# Altium footprint library WR-TBL_Rising Cage Clamp_10.00mm.PcbLib: 54 footprints (part 2 of 4)
Each footprint in its own frame and in the unit in brackets; x right, y up, seen from the top. Pads: shape width x height; smd on the part's side, far side on the other; paste and mask are expansions set on the pad; w line width, h text height; cw(c..) or ccw(c..) is an arc to the next point about the centre after c.
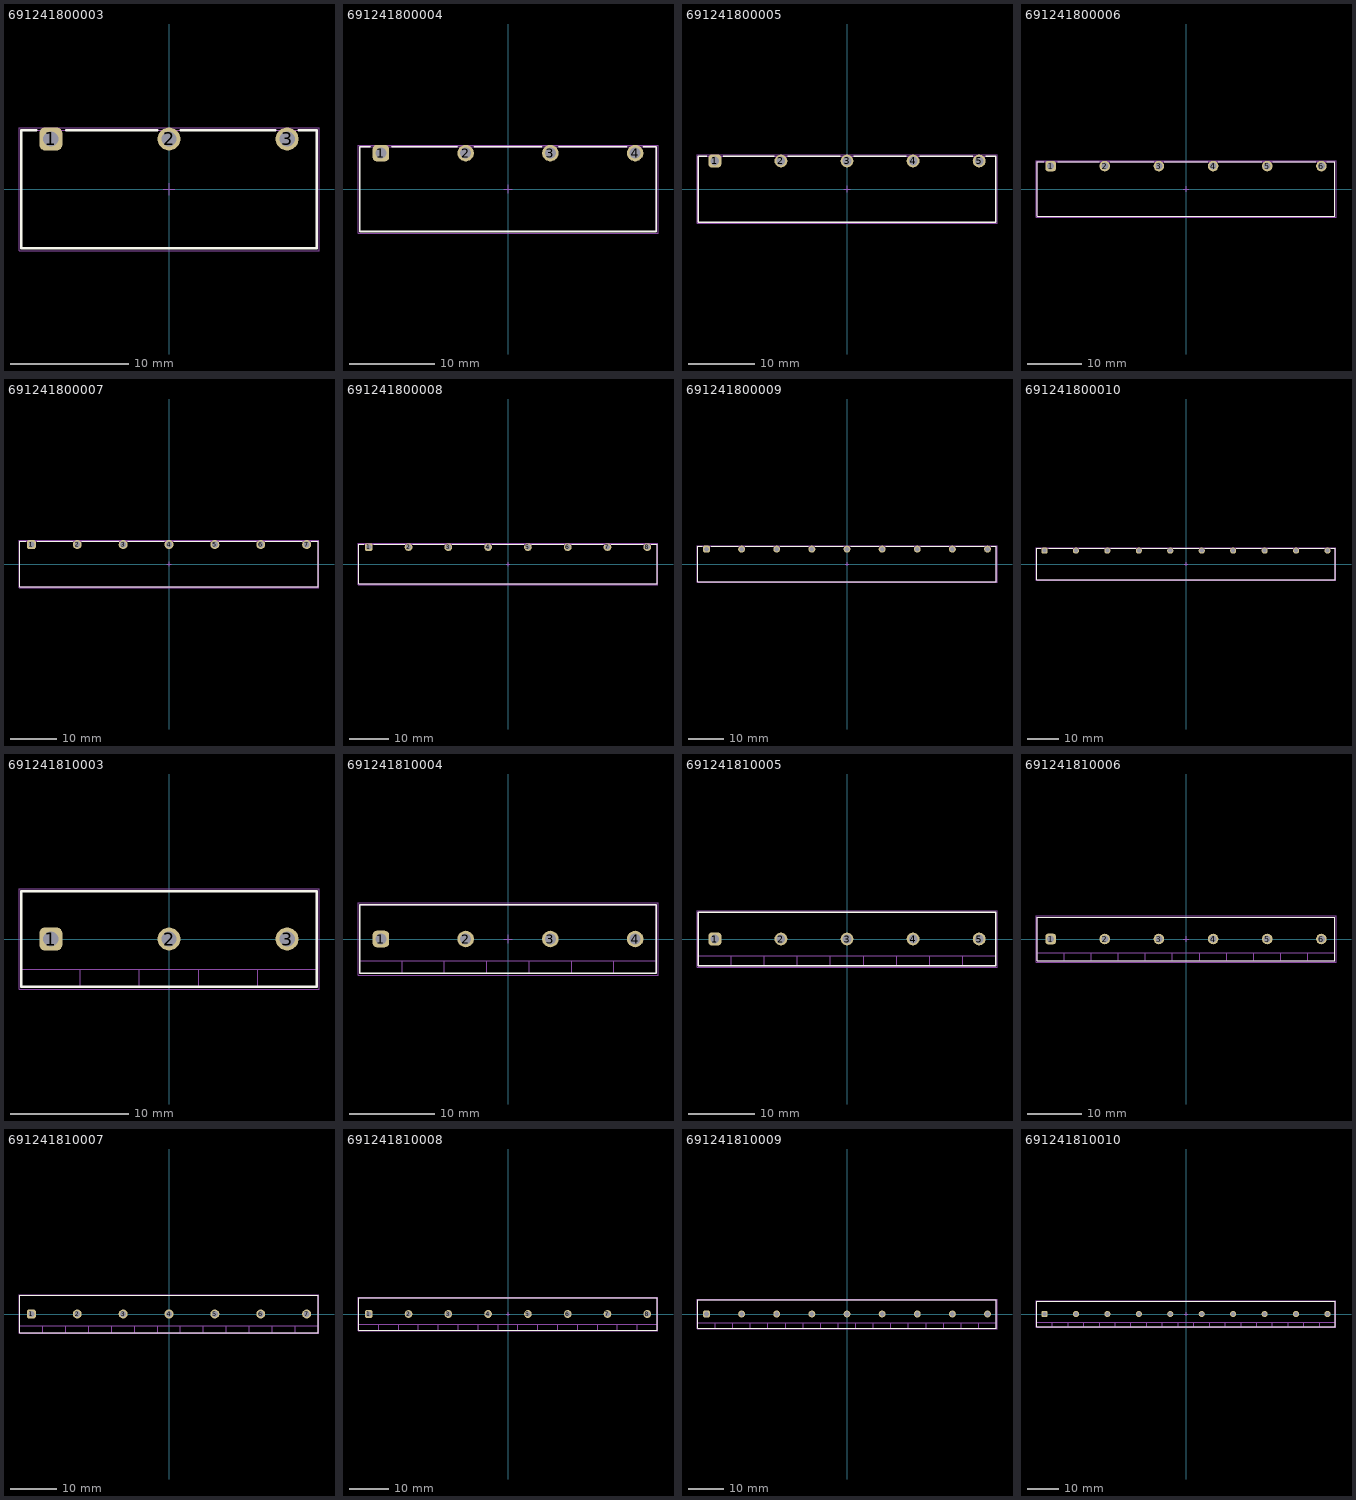
[diagram p1: the footprints below, top view; thin cyan lines are the x and y axes]

## 691241800003 [mm] "10.00mm Vertical Cable Entry with Rising Cage Clamp, 03p"
height 8.1
pads (3):
  rrect50% 1.95x1.95 hole 1.3: 1(-10,4.25)
  round 1.95 hole 1.3: 2(0,4.25) 3(10,4.25)
Top Overlay:
  lines w0.2: -11.25,5 -12.5,5 -12.5,-5 12.5,-5 12.5,5 11,5 ; -8.7,5 -1,5 ; 1,5 9,5
Top Assembly:
  lines w0.1: -12.5,-5 -12.5,5 12.5,5 12.5,-5 -12.5,-5
Top Designator:
  text ".Designator" at -3.647,-0.357 h1
Top 3D Body:
  lines w0.1: -12.5,-5 12.5,-5 12.5,5 -12.5,5 -12.5,-5
Top Courtyard:
  lines w0.05: -12.7,-5.2 12.7,-5.2 12.7,5.2 -12.7,5.2 -12.7,-5.2
Top Component Center:
  lines w0.1: -0.5,0 0.5,0 ; 0,-0.5 0,0.5
3D body "691241800003.stp": height 8.2, standoff -3.4, extent -12.5,-5 12.5,5

## 691241800004 [mm] "10.00mm Vertical Cable Entry with Rising Cage Clamp, 04p"
height 8.1
pads (4):
  rrect50% 1.95x1.95 hole 1.3: 1(-15,4.25)
  round 1.95 hole 1.3: 2(-5,4.25) 3(5,4.25) 4(15,4.25)
Top Overlay:
  lines w0.2: -16.25,5 -17.5,5 -17.5,-5 17.5,-5 17.5,5 16,5 ; -13.7,5 -6,5 ; -4,5 4,5 ; 6,5 14,5
Top Assembly:
  lines w0.1: -17.5,-5 17.5,-5 17.5,5 -17.5,5 -17.5,-5
Top Designator:
  text ".Designator" at -3.647,-0.357 h1
Top 3D Body:
  lines w0.1: -17.5,-5 -17.5,5 17.5,5 17.5,-5 -17.5,-5
Top Courtyard:
  lines w0.05: -17.7,-5.2 -17.7,5.2 17.7,5.2 17.7,-5.2 -17.7,-5.2
Top Component Center:
  lines w0.1: -0.5,0 0.5,0 ; 0,-0.5 0,0.5
3D body "691241800004.stp": height 8.2, standoff -3.4, extent -17.5,-5 17.5,5

## 691241800005 [mm] "10.00mm Vertical Cable Entry with Rising Cage Clamp, 05p"
height 8.1
pads (5):
  rrect50% 1.95x1.95 hole 1.3: 1(-20,4.25)
  round 1.95 hole 1.3: 2(-10,4.25) 3(0,4.25) 4(10,4.25) 5(20,4.25)
Top Overlay:
  lines w0.2: -21.25,5 -22.5,5 -22.5,-5 22.5,-5 22.5,5 21,5 ; -18.7,5 -11,5 ; -9,5 -1,5 ; 1,5 9,5 ; 11,5 19,5
Top Assembly:
  lines w0.1: -22.5,-5 22.5,-5 22.5,5 -22.5,5 -22.5,-5
Top Designator:
  text ".Designator" at -3.647,-0.357 h1
Top 3D Body:
  lines w0.1: -22.5,-5 -22.5,5 22.5,5 22.5,-5 -22.5,-5
Top Courtyard:
  lines w0.05: -22.7,-5.2 -22.7,5.2 22.7,5.2 22.7,-5.2 -22.7,-5.2
Top Component Center:
  lines w0.1: -0.5,0 0.5,0 ; 0,-0.5 0,0.5
3D body "691241800005.stp": height 8.2, standoff -3.4, extent -22.5,-5 22.5,5

## 691241800006 [mm] "10.00mm Vertical Cable Entry with Rising Cage Clamp, 06p"
height 8.1
pads (6):
  rrect50% 1.95x1.95 hole 1.3: 1(-25,4.25)
  round 1.95 hole 1.3: 2(-15,4.25) 3(-5,4.25) 4(5,4.25) 5(15,4.25) 6(25,4.25)
Top Overlay:
  lines w0.2: -26.25,5 -27.5,5 -27.5,-5 27.5,-5 27.5,5 26,5 ; -23.7,5 -16,5 ; -14,5 -6,5 ; -4,5 4,5 ; 6,5 14,5 ; 16,5 24,5
Top Assembly:
  lines w0.1: -27.5,-5 27.5,-5 27.5,5 -27.5,5 -27.5,-5
Top Designator:
  text ".Designator" at -3.647,-0.357 h1
Top 3D Body:
  lines w0.1: -27.5,-5 -27.5,5 27.5,5 27.5,-5 -27.5,-5
Top Courtyard:
  lines w0.05: -27.7,-5.2 -27.7,5.2 27.7,5.2 27.7,-5.2 -27.7,-5.2
Top Component Center:
  lines w0.1: -0.5,0 0.5,0 ; 0,-0.5 0,0.5
3D body "691241800006.stp": height 8.2, standoff -3.4, extent -27.5,-5 27.5,5

## 691241800007 [mm] "10.00mm Vertical Cable Entry with Rising Cage Clamp, 07p"
height 8.1
pads (7):
  rrect50% 1.95x1.95 hole 1.3: 1(-30,4.25)
  round 1.95 hole 1.3: 2(-20,4.25) 3(-10,4.25) 4(0,4.25) 5(10,4.25) 6(20,4.25) 7(30,4.25)
Top Overlay:
  lines w0.2: -31.25,5 -32.5,5 -32.5,-5 32.5,-5 32.5,5 31,5 ; -28.7,5 -21,5 ; -19,5 -11,5 ; -9,5 -1,5 ; 1,5 9,5 ; 11,5 19,5 ; 21,5 29,5
Top Assembly:
  lines w0.1: -32.5,-5 32.5,-5 32.5,5 -32.5,5 -32.5,-5
Top Designator:
  text ".Designator" at -3.647,-0.357 h1
Top 3D Body:
  lines w0.1: -32.5,-5 -32.5,5 32.5,5 32.5,-5 -32.5,-5
Top Courtyard:
  lines w0.05: -32.7,-5.2 -32.7,5.2 32.7,5.2 32.7,-5.2 -32.7,-5.2
Top Component Center:
  lines w0.1: -0.5,0 0.5,0 ; 0,-0.5 0,0.5
3D body "691241800007.stp": height 8.2, standoff -3.4, extent -32.5,-5 32.5,5

## 691241800008 [mm] "10.00mm Vertical Cable Entry with Rising Cage Clamp, 08p"
height 8.1
pads (8):
  rrect50% 1.95x1.95 hole 1.3: 1(-35,4.25)
  round 1.95 hole 1.3: 2(-25,4.25) 3(-15,4.25) 4(-5,4.25) 5(5,4.25) 6(15,4.25) 7(25,4.25) 8(35,4.25)
Top Overlay:
  lines w0.2: -36.25,5 -37.5,5 -37.5,-5 37.5,-5 37.5,5 36,5 ; -33.7,5 -26,5 ; -24,5 -16,5 ; -14,5 -6,5 ; -4,5 4,5 ; 6,5 14,5 ; 16,5 24,5 ; 26,5 34,5
Top Assembly:
  lines w0.1: -37.5,-5 -37.5,5 37.5,5 37.5,-5 -37.5,-5
Top Designator:
  text ".Designator" at -3.647,-0.357 h1
Top 3D Body:
  lines w0.1: -37.5,-5 37.5,-5 37.5,5 -37.5,5 -37.5,-5
Top Courtyard:
  lines w0.05: -37.7,-5.2 37.7,-5.2 37.7,5.2 -37.7,5.2 -37.7,-5.2
Top Component Center:
  lines w0.1: -0.5,0 0.5,0 ; 0,-0.5 0,0.5
3D body "691241800008.stp": height 8.2, standoff -3.4, extent -37.5,-5 37.5,5

## 691241800009 [mm] "10.00mm Vertical Cable Entry with Rising Cage Clamp, 09p"
height 8.1
pads (9):
  rrect50% 1.95x1.95 hole 1.3: 1(-40,4.25)
  round 1.95 hole 1.3: 2(-30,4.25) 3(-20,4.25) 4(-10,4.25) 5(0,4.25) 6(10,4.25) 7(20,4.25) 8(30,4.25) 9(40,4.25)
Top Overlay:
  lines w0.2: -41.25,5 -42.5,5 -42.5,-5 42.5,-5 42.5,5 41,5 ; -38.7,5 -31,5 ; -29,5 -21,5 ; -19,5 -11,5 ; -9,5 -1,5 ; 1,5 9,5 ; 11,5 19,5 ; 21,5 29,5 ; 31,5 39,5
Top Assembly:
  lines w0.1: -42.5,-5 42.5,-5 42.5,5 -42.5,5 -42.5,-5
Top Designator:
  text ".Designator" at -3.647,-0.357 h1
Top 3D Body:
  lines w0.1: -42.5,-5 -42.5,5 42.5,5 42.5,-5 -42.5,-5
Top Courtyard:
  lines w0.05: -42.7,-5.2 -42.7,5.2 42.7,5.2 42.7,-5.2 -42.7,-5.2
Top Component Center:
  lines w0.1: -0.5,0 0.5,0 ; 0,-0.5 0,0.5
3D body "691241800009.stp": height 8.2, standoff -3.4, extent -42.5,-5 42.5,5

## 691241800010 [mm] "10.00mm Vertical Cable Entry with Rising Cage Clamp, 10p"
height 8.1
pads (10):
  rrect50% 1.95x1.95 hole 1.3: 1(-45,4.25)
  round 1.95 hole 1.3: 2(-35,4.25) 3(-25,4.25) 4(-15,4.25) 5(-5,4.25) 6(5,4.25) 7(15,4.25) 8(25,4.25) 9(35,4.25) 10(45,4.25)
Top Overlay:
  lines w0.2: -46.25,5 -47.5,5 -47.5,-5 47.5,-5 47.5,5 46,5 ; -43.7,5 -36,5 ; -34,5 -26,5 ; -24,5 -16,5 ; -14,5 -6,5 ; -4,5 4,5 ; 6,5 14,5 ; 16,5 24,5 ; 26,5 34,5 ; 36,5 44,5
Top Assembly:
  lines w0.1: -47.5,-5 47.5,-5 47.5,5 -47.5,5 -47.5,-5
Top Designator:
  text ".Designator" at -3.647,-0.357 h1
Top 3D Body:
  lines w0.1: -47.5,-5 -47.5,5 47.5,5 47.5,-5 -47.5,-5
Top Courtyard:
  lines w0.05: -47.7,-5.2 -47.7,5.2 47.7,5.2 47.7,-5.2 -47.7,-5.2
Top Component Center:
  lines w0.1: -0.5,0 0.5,0 ; 0,-0.5 0,0.5
3D body "691241800010.stp": height 8.2, standoff -3.4, extent -47.5,-5 47.5,5

## 691241810003 [mm] "10.00mm Horizontal Cable Entry with Rising Cage Clamp, 03p"
height 10
pads (3):
  rrect50% 1.95x1.95 hole 1.3: 1(-10,0)
  round 1.95 hole 1.3: 2(0,0) 3(10,0)
Top Overlay:
  lines w0.2: -12.5,-4.05 -12.5,4.05 12.5,4.05 12.5,-4.05 -12.5,-4.05
Top Assembly:
  lines w0.1: -12.5,-2.55 12.5,-2.55 ; -7.5,-4.05 -7.5,-2.55 ; -2.5,-4.05 -2.5,-2.55 ; 2.5,-4.05 2.5,-2.55 ; 7.5,-4.05 7.5,-2.55 ; -12.5,-4.05 12.5,-4.05 12.5,4.05 -12.5,4.05 -12.5,-4.05
Top Designator:
  text ".Designator" at -3.647,-0.357 h1
Top 3D Body:
  lines w0.1: -12.5,-2.55 12.5,-2.55 ; -7.5,-4.05 -7.5,-2.55 ; -2.5,-4.05 -2.5,-2.55 ; 2.5,-4.05 2.5,-2.55 ; 7.5,-4.05 7.5,-2.55 ; -12.5,-4.05 -12.5,4.05 12.5,4.05 12.5,-4.05 -12.5,-4.05
Top Courtyard:
  lines w0.05: -12.7,-4.25 -12.7,4.25 12.7,4.25 12.7,-4.25 -12.7,-4.25
Top Component Center:
  lines w0.1: -0.5,0 0.5,0 ; 0,-0.5 0,0.5
3D body "691241810003.stp": height 10.1, standoff -3.4, extent -12.5,-4.05 12.5,4.05

## 691241810004 [mm] "10.00mm Horizontal Cable Entry with Rising Cage Clamp, 04p"
height 10
pads (4):
  rrect50% 1.95x1.95 hole 1.3: 1(-15,0)
  round 1.95 hole 1.3: 2(-5,0) 3(5,0) 4(15,0)
Top Overlay:
  lines w0.2: -17.5,-4.05 -17.5,4.05 17.5,4.05 17.5,-4.05 -17.5,-4.05
Top Assembly:
  lines w0.1: -17.5,-2.55 17.5,-2.55 ; -12.5,-4.05 -12.5,-2.55 ; -7.5,-4.05 -7.5,-2.55 ; -2.5,-4.05 -2.5,-2.55 ; 2.5,-4.05 2.5,-2.55 ; 7.5,-4.05 7.5,-2.55 ; 12.5,-4.05 12.5,-2.55 ; -17.5,-4.05 17.5,-4.05 17.5,4.05 -17.5,4.05 -17.5,-4.05
Top Designator:
  text ".Designator" at -3.647,-0.357 h1
Top 3D Body:
  lines w0.1: -17.5,-2.55 17.5,-2.55 ; -12.5,-4.05 -12.5,-2.55 ; -7.5,-4.05 -7.5,-2.55 ; -2.5,-4.05 -2.5,-2.55 ; 2.5,-4.05 2.5,-2.55 ; 7.5,-4.05 7.5,-2.55 ; 12.5,-4.05 12.5,-2.55 ; -17.5,-4.05 -17.5,4.05 17.5,4.05 17.5,-4.05 -17.5,-4.05
Top Courtyard:
  lines w0.05: -17.7,-4.25 -17.7,4.25 17.7,4.25 17.7,-4.25 -17.7,-4.25
Top Component Center:
  lines w0.1: -0.5,0 0.5,0 ; 0,-0.5 0,0.5
3D body "691241810004.stp": height 10.1, standoff -3.4, extent -17.5,-4.05 17.5,4.05

## 691241810005 [mm] "10.00mm Horizontal Cable Entry with Rising Cage Clamp, 05p"
height 10
pads (5):
  rrect50% 1.95x1.95 hole 1.3: 1(-20,0)
  round 1.95 hole 1.3: 2(-10,0) 3(0,0) 4(10,0) 5(20,0)
Top Overlay:
  lines w0.2: -22.5,-4.05 22.5,-4.05 22.5,4.05 -22.5,4.05 -22.5,-4.05
Top Assembly:
  lines w0.1: -22.5,-2.55 22.5,-2.55 ; -17.5,-4.05 -17.5,-2.55 ; -12.5,-4.05 -12.5,-2.55 ; -7.5,-4.05 -7.5,-2.55 ; -2.5,-4.05 -2.5,-2.55 ; 2.5,-4.05 2.5,-2.55 ; 7.5,-4.05 7.5,-2.55 ; 12.5,-4.05 12.5,-2.55 ; 17.5,-4.05 17.5,-2.55 ; -22.5,-4.05 -22.5,4.05 22.5,4.05 22.5,-4.05 -22.5,-4.05
Top Designator:
  text ".Designator" at -3.647,-0.357 h1
Top 3D Body:
  lines w0.1: -22.5,-2.55 22.5,-2.55 ; -17.5,-4.05 -17.5,-2.55 ; -12.5,-4.05 -12.5,-2.55 ; -7.5,-4.05 -7.5,-2.55 ; -2.5,-4.05 -2.5,-2.55 ; 2.5,-4.05 2.5,-2.55 ; 7.5,-4.05 7.5,-2.55 ; 12.5,-4.05 12.5,-2.55 ; 17.5,-4.05 17.5,-2.55 ; -22.5,-4.05 22.5,-4.05 22.5,4.05 -22.5,4.05 -22.5,-4.05
Top Courtyard:
  lines w0.05: -22.7,-4.25 22.7,-4.25 22.7,4.25 -22.7,4.25 -22.7,-4.25
Top Component Center:
  lines w0.1: -0.5,0 0.5,0 ; 0,-0.5 0,0.5
3D body "691241810005.stp": height 10.1, standoff -3.4, extent -22.5,-4.05 22.5,4.05

## 691241810006 [mm] "10.00mm Horizontal Cable Entry with Rising Cage Clamp, 06p"
height 10
pads (6):
  rrect50% 1.95x1.95 hole 1.3: 1(-25,0)
  round 1.95 hole 1.3: 2(-15,0) 3(-5,0) 4(5,0) 5(15,0) 6(25,0)
Top Overlay:
  lines w0.2: -27.5,-4.05 27.5,-4.05 27.5,4.05 -27.5,4.05 -27.5,-4.05
Top Assembly:
  lines w0.1: -27.5,-2.55 27.5,-2.55 ; -22.5,-4.05 -22.5,-2.55 ; -17.5,-4.05 -17.5,-2.55 ; -12.5,-4.05 -12.5,-2.55 ; -7.5,-4.05 -7.5,-2.55 ; -2.5,-4.05 -2.5,-2.55 ; 2.5,-4.05 2.5,-2.55 ; 7.5,-4.05 7.5,-2.55 ; 12.5,-4.05 12.5,-2.55 ; 17.5,-4.05 17.5,-2.55 ; 22.5,-4.05 22.5,-2.55 ; -27.5,-4.05 -27.5,4.05 27.5,4.05 27.5,-4.05 -27.5,-4.05
Top Designator:
  text ".Designator" at -3.647,-0.357 h1
Top 3D Body:
  lines w0.1: -27.5,-2.55 27.5,-2.55 ; -22.5,-4.05 -22.5,-2.55 ; -17.5,-4.05 -17.5,-2.55 ; -12.5,-4.05 -12.5,-2.55 ; -7.5,-4.05 -7.5,-2.55 ; -2.5,-4.05 -2.5,-2.55 ; 2.5,-4.05 2.5,-2.55 ; 7.5,-4.05 7.5,-2.55 ; 12.5,-4.05 12.5,-2.55 ; 17.5,-4.05 17.5,-2.55 ; 22.5,-4.05 22.5,-2.55 ; -27.5,-4.05 27.5,-4.05 27.5,4.05 -27.5,4.05 -27.5,-4.05
Top Courtyard:
  lines w0.05: -27.7,-4.25 27.7,-4.25 27.7,4.25 -27.7,4.25 -27.7,-4.25
Top Component Center:
  lines w0.1: -0.5,0 0.5,0 ; 0,-0.5 0,0.5
3D body "691241810006.stp": height 10.1, standoff -3.4, extent -27.5,-4.05 27.5,4.05

## 691241810007 [mm] "10.00mm Horizontal Cable Entry with Rising Cage Clamp, 07p"
height 10
pads (7):
  rrect50% 1.95x1.95 hole 1.3: 1(-30,0)
  round 1.95 hole 1.3: 2(-20,0) 3(-10,0) 4(0,0) 5(10,0) 6(20,0) 7(30,0)
Top Overlay:
  lines w0.2: -32.5,-4.05 32.5,-4.05 32.5,4.05 -32.5,4.05 -32.5,-4.05
Top Assembly:
  lines w0.1: -32.5,-2.55 32.5,-2.55 ; -27.5,-4.05 -27.5,-2.55 ; -22.5,-4.05 -22.5,-2.55 ; -17.5,-4.05 -17.5,-2.55 ; -12.5,-4.05 -12.5,-2.55 ; -7.5,-4.05 -7.5,-2.55 ; -2.5,-4.05 -2.5,-2.55 ; 2.5,-4.05 2.5,-2.55 ; 7.5,-4.05 7.5,-2.55 ; 12.5,-4.05 12.5,-2.55 ; 17.5,-4.05 17.5,-2.55 ; 22.5,-4.05 22.5,-2.55 ; 27.5,-4.05 27.5,-2.55 ; -32.5,-4.05 -32.5,4.05 32.5,4.05 32.5,-4.05 -32.5,-4.05
Top Designator:
  text ".Designator" at -3.647,-0.357 h1
Top 3D Body:
  lines w0.1: -32.5,-2.55 32.5,-2.55 ; -27.5,-4.05 -27.5,-2.55 ; -22.5,-4.05 -22.5,-2.55 ; -17.5,-4.05 -17.5,-2.55 ; -12.5,-4.05 -12.5,-2.55 ; -7.5,-4.05 -7.5,-2.55 ; -2.5,-4.05 -2.5,-2.55 ; 2.5,-4.05 2.5,-2.55 ; 7.5,-4.05 7.5,-2.55 ; 12.5,-4.05 12.5,-2.55 ; 17.5,-4.05 17.5,-2.55 ; 22.5,-4.05 22.5,-2.55 ; 27.5,-4.05 27.5,-2.55 ; -32.5,-4.05 32.5,-4.05 32.5,4.05 -32.5,4.05 -32.5,-4.05
Top Courtyard:
  lines w0.05: -32.7,-4.25 32.7,-4.25 32.7,4.25 -32.7,4.25 -32.7,-4.25
Top Component Center:
  lines w0.1: -0.5,0 0.5,0 ; 0,-0.5 0,0.5
3D body "691241810007.stp": height 10.1, standoff -3.4, extent -32.5,-4.05 32.5,4.05

## 691241810008 [mm] "10.00mm Horizontal Cable Entry with Rising Cage Clamp, 08p"
height 10
pads (8):
  rrect50% 1.95x1.95 hole 1.3: 1(-35,0)
  round 1.95 hole 1.3: 2(-25,0) 3(-15,0) 4(-5,0) 5(5,0) 6(15,0) 7(25,0) 8(35,0)
Top Overlay:
  lines w0.2: -37.5,-4.05 37.5,-4.05 37.5,4.05 -37.5,4.05 -37.5,-4.05
Top Assembly:
  lines w0.1: -37.5,-2.55 37.5,-2.55 ; -32.5,-4.05 -32.5,-2.55 ; -27.5,-4.05 -27.5,-2.55 ; -22.5,-4.05 -22.5,-2.55 ; -17.5,-4.05 -17.5,-2.55 ; -12.5,-4.05 -12.5,-2.55 ; -7.5,-4.05 -7.5,-2.55 ; -2.5,-4.05 -2.5,-2.55 ; 2.5,-4.05 2.5,-2.55 ; 7.5,-4.05 7.5,-2.55 ; 12.5,-4.05 12.5,-2.55 ; 17.5,-4.05 17.5,-2.55 ; 22.5,-4.05 22.5,-2.55 ; 27.5,-4.05 27.5,-2.55 ; 32.5,-4.05 32.5,-2.55 ; -37.5,-4.05 -37.5,4.05 37.5,4.05 37.5,-4.05 -37.5,-4.05
Top Designator:
  text ".Designator" at -3.647,-0.357 h1
Top 3D Body:
  lines w0.1: -37.5,-2.55 37.5,-2.55 ; -32.5,-4.05 -32.5,-2.55 ; -27.5,-4.05 -27.5,-2.55 ; -22.5,-4.05 -22.5,-2.55 ; -17.5,-4.05 -17.5,-2.55 ; -12.5,-4.05 -12.5,-2.55 ; -7.5,-4.05 -7.5,-2.55 ; -2.5,-4.05 -2.5,-2.55 ; 2.5,-4.05 2.5,-2.55 ; 7.5,-4.05 7.5,-2.55 ; 12.5,-4.05 12.5,-2.55 ; 17.5,-4.05 17.5,-2.55 ; 22.5,-4.05 22.5,-2.55 ; 27.5,-4.05 27.5,-2.55 ; 32.5,-4.05 32.5,-2.55 ; -37.5,-4.05 37.5,-4.05 37.5,4.05 -37.5,4.05 -37.5,-4.05
Top Courtyard:
  lines w0.05: -37.7,-4.25 37.7,-4.25 37.7,4.25 -37.7,4.25 -37.7,-4.25
Top Component Center:
  lines w0.1: -0.5,0 0.5,0 ; 0,-0.5 0,0.5
3D body "691241810008.stp": height 10.1, standoff -3.4, extent -37.5,-4.05 37.5,4.05

## 691241810009 [mm] "10.00mm Horizontal Cable Entry with Rising Cage Clamp, 09p"
height 10
pads (9):
  rrect50% 1.95x1.95 hole 1.3: 1(-40,0)
  round 1.95 hole 1.3: 2(-30,0) 3(-20,0) 4(-10,0) 5(0,0) 6(10,0) 7(20,0) 8(30,0) 9(40,0)
Top Overlay:
  lines w0.2: -42.5,-4.05 -42.5,4.05 42.5,4.05 42.5,-4.05 -42.5,-4.05
Top Assembly:
  lines w0.1: -42.5,-2.55 42.5,-2.55 ; -37.5,-4.05 -37.5,-2.55 ; -32.5,-4.05 -32.5,-2.55 ; -27.5,-4.05 -27.5,-2.55 ; -22.5,-4.05 -22.5,-2.55 ; -17.5,-4.05 -17.5,-2.55 ; -12.5,-4.05 -12.5,-2.55 ; -7.5,-4.05 -7.5,-2.55 ; -2.5,-4.05 -2.5,-2.55 ; 2.5,-4.05 2.5,-2.55 ; 7.5,-4.05 7.5,-2.55 ; 12.5,-4.05 12.5,-2.55 ; 17.5,-4.05 17.5,-2.55 ; 22.5,-4.05 22.5,-2.55 ; 27.5,-4.05 27.5,-2.55 ; 32.5,-4.05 32.5,-2.55 ; 37.5,-4.05 37.5,-2.55 ; -42.5,-4.05 42.5,-4.05 42.5,4.05 -42.5,4.05 -42.5,-4.05
Top Designator:
  text ".Designator" at -3.647,-0.357 h1
Top 3D Body:
  lines w0.1: -42.5,-2.55 42.5,-2.55 ; -37.5,-4.05 -37.5,-2.55 ; -32.5,-4.05 -32.5,-2.55 ; -27.5,-4.05 -27.5,-2.55 ; -22.5,-4.05 -22.5,-2.55 ; -17.5,-4.05 -17.5,-2.55 ; -12.5,-4.05 -12.5,-2.55 ; -7.5,-4.05 -7.5,-2.55 ; -2.5,-4.05 -2.5,-2.55 ; 2.5,-4.05 2.5,-2.55 ; 7.5,-4.05 7.5,-2.55 ; 12.5,-4.05 12.5,-2.55 ; 17.5,-4.05 17.5,-2.55 ; 22.5,-4.05 22.5,-2.55 ; 27.5,-4.05 27.5,-2.55 ; 32.5,-4.05 32.5,-2.55 ; 37.5,-4.05 37.5,-2.55 ; -42.5,-4.05 -42.5,4.05 42.5,4.05 42.5,-4.05 -42.5,-4.05
Top Courtyard:
  lines w0.05: -42.7,-4.25 -42.7,4.25 42.7,4.25 42.7,-4.25 -42.7,-4.25
Top Component Center:
  lines w0.1: -0.5,0 0.5,0 ; 0,-0.5 0,0.5
3D body "691241810009.stp": height 10.1, standoff -3.4, extent -42.5,-4.05 42.5,4.05

## 691241810010 [mm] "10.00mm Horizontal Cable Entry with Rising Cage Clamp, 10p"
height 10
pads (10):
  rrect50% 1.95x1.95 hole 1.3: 1(-45,0)
  round 1.95 hole 1.3: 2(-35,0) 3(-25,0) 4(-15,0) 5(-5,0) 6(5,0) 7(15,0) 8(25,0) 9(35,0) 10(45,0)
Top Overlay:
  lines w0.2: -47.5,-4.05 -47.5,4.05 47.5,4.05 47.5,-4.05 -47.5,-4.05
Top Assembly:
  lines w0.1: -47.5,-2.55 47.5,-2.55 ; -42.5,-4.05 -42.5,-2.55 ; -37.5,-4.05 -37.5,-2.55 ; -32.5,-4.05 -32.5,-2.55 ; -27.5,-4.05 -27.5,-2.55 ; -22.5,-4.05 -22.5,-2.55 ; -17.5,-4.05 -17.5,-2.55 ; -12.5,-4.05 -12.5,-2.55 ; -7.5,-4.05 -7.5,-2.55 ; -2.5,-4.05 -2.5,-2.55 ; 2.5,-4.05 2.5,-2.55 ; 7.5,-4.05 7.5,-2.55 ; 12.5,-4.05 12.5,-2.55 ; 17.5,-4.05 17.5,-2.55 ; 22.5,-4.05 22.5,-2.55 ; 27.5,-4.05 27.5,-2.55 ; 32.5,-4.05 32.5,-2.55 ; 37.5,-4.05 37.5,-2.55 ; 42.5,-4.05 42.5,-2.55 ; -47.5,-4.05 47.5,-4.05 47.5,4.05 -47.5,4.05 -47.5,-4.05
Top Designator:
  text ".Designator" at -3.647,-0.357 h1
Top 3D Body:
  lines w0.1: -47.5,-2.55 47.5,-2.55 ; -42.5,-4.05 -42.5,-2.55 ; -37.5,-4.05 -37.5,-2.55 ; -32.5,-4.05 -32.5,-2.55 ; -27.5,-4.05 -27.5,-2.55 ; -22.5,-4.05 -22.5,-2.55 ; -17.5,-4.05 -17.5,-2.55 ; -12.5,-4.05 -12.5,-2.55 ; -7.5,-4.05 -7.5,-2.55 ; -2.5,-4.05 -2.5,-2.55 ; 2.5,-4.05 2.5,-2.55 ; 7.5,-4.05 7.5,-2.55 ; 12.5,-4.05 12.5,-2.55 ; 17.5,-4.05 17.5,-2.55 ; 22.5,-4.05 22.5,-2.55 ; 27.5,-4.05 27.5,-2.55 ; 32.5,-4.05 32.5,-2.55 ; 37.5,-4.05 37.5,-2.55 ; 42.5,-4.05 42.5,-2.55 ; -47.5,-4.05 -47.5,4.05 47.5,4.05 47.5,-4.05 -47.5,-4.05
Top Courtyard:
  lines w0.05: -47.7,-4.25 -47.7,4.25 47.7,4.25 47.7,-4.25 -47.7,-4.25
Top Component Center:
  lines w0.1: -0.5,0 0.5,0 ; 0,-0.5 0,0.5
3D body "691241810010.stp": height 10.1, standoff -3.4, extent -47.5,-4.05 47.5,4.05